# Altium schematic symbol library Intersil.SchLib: 1 symbol
Pins are listed as number, name and electrical type; pins without a type are passive.

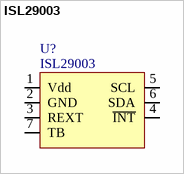
[diagram p0: symbol ISL29003]

## ISL29003
designator U?
Catalog: *; Catalog number: *; Price: *; Value: ISL29003
footprint ISL29003
pins: 1 Vdd, 2 GND, 3 REXT, 4 ~{INT}, 5 SCL, 6 SDA, 7 TB